# Altium integrated library TI Interface LVDS M-LVDS ECL CML.IntLib: 251 symbols (part 6 of 10)
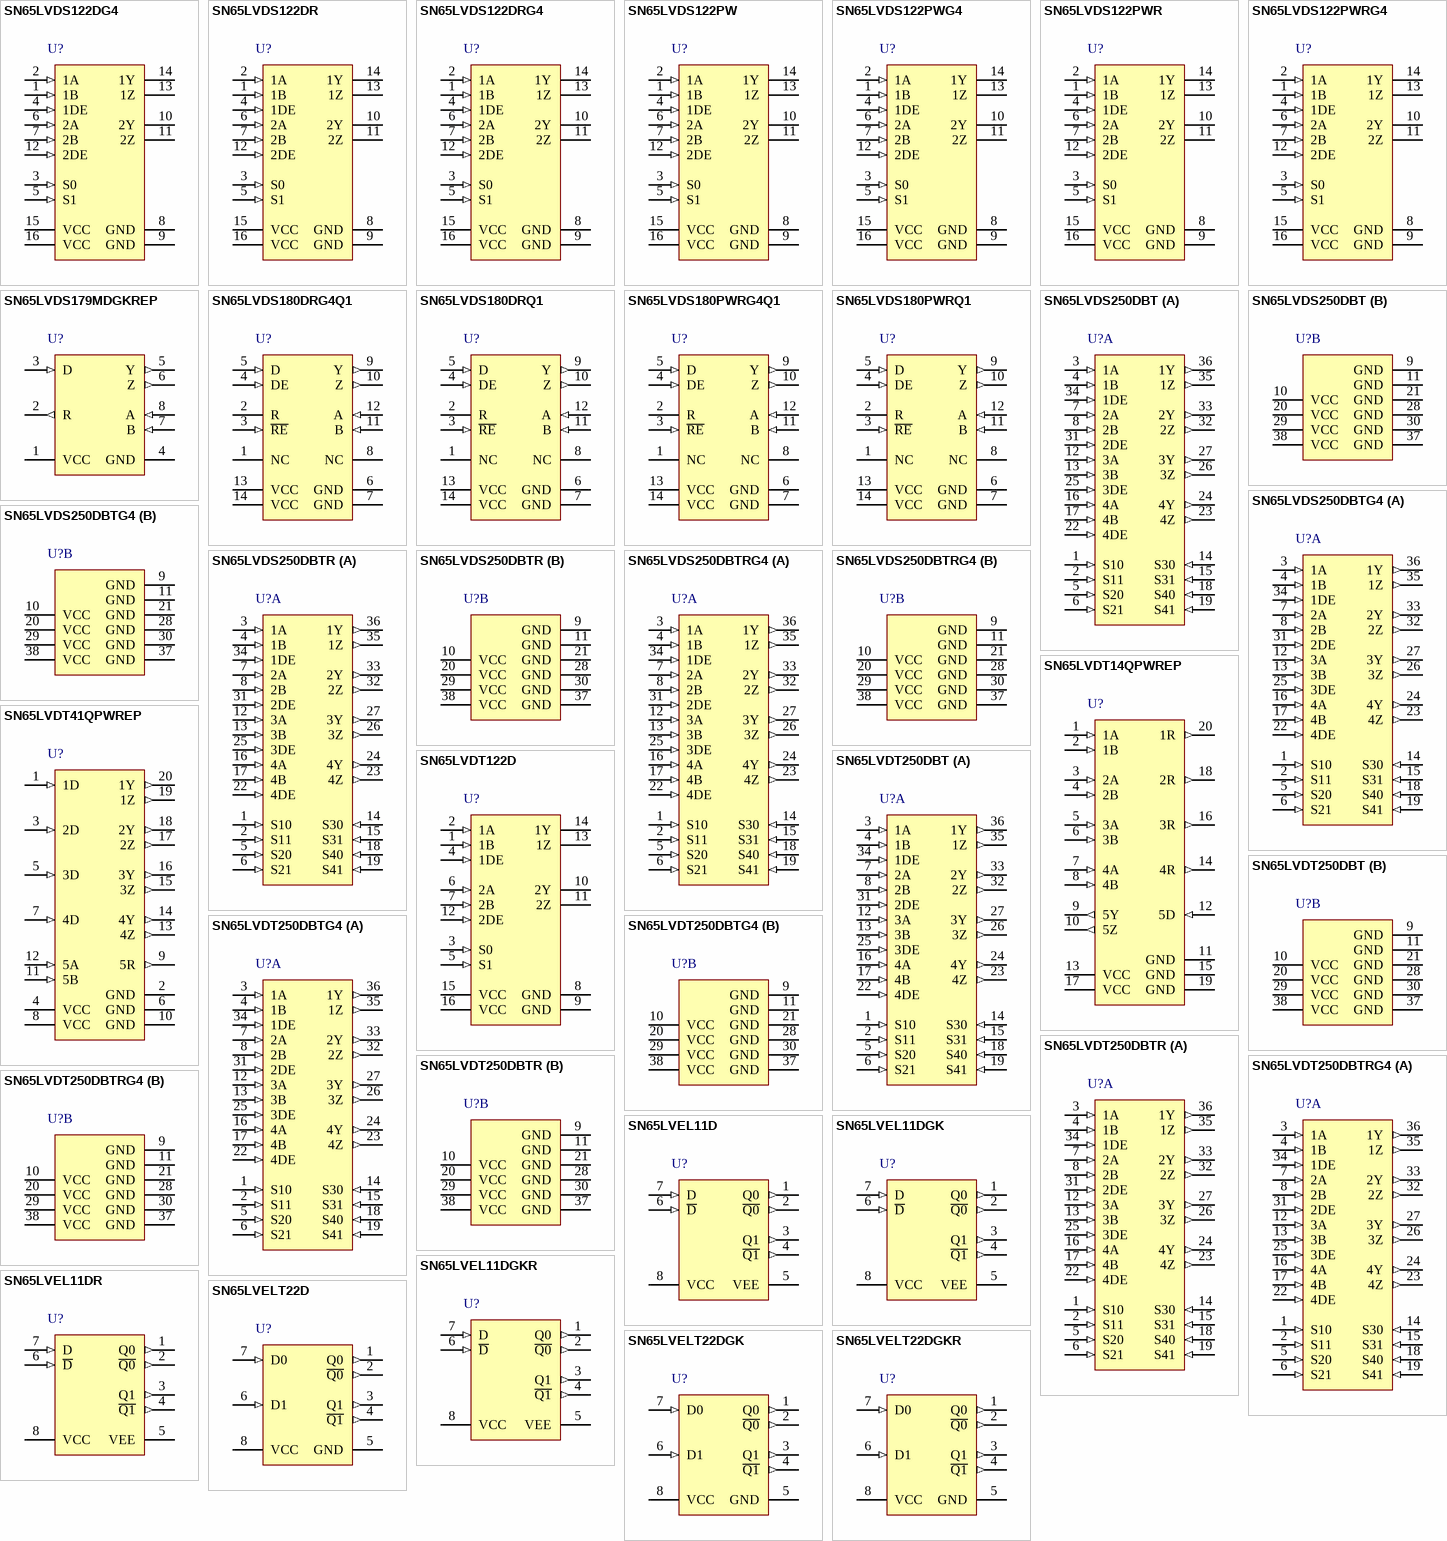
[diagram p14: symbols SN65LVDS122DG4 to SN65LVELT22DGKR]

## SN65LVDT250DBTR
designator U?
2.0 Gbps 4 x 4 Crosspoint Switch with LVDS Output, 4 Tx and 4 Rx, -40 to +85 degC, 38-pin TSSOP (DBT), Green (RoHS & no Sb/Br); Part-to-Part Skew(Max)(ps): 300; Manufacturer: Texas Instruments; PartNumber: SN65LVDT250DBTR; Crosspoint-Switch: TRUE; ESD HBM(kV): 3; ICC(Max)(mA): 145; Input Signal: CML, LVDS, LVPECL; No. of Rx: 4; Peak-to-Peak Jitter(Max)(ps): 110; Signaling Rate(Mbps): 2000; SubFamily: Crosspoint-Switch (>1Gbps); DatasheetVersion: SLLS594B; PackageVersion: revI, Mar-2011; PackageReference: DBT38; PackageDescription: 38-Pin Plastic Small Outline 0.5 mm Pitch; Supplier 1: Digi-Key; Supplier Part Number 1: SN65LVDT250DBTR-ND; Supplier 2: Newark; Supplier Part Number 2: 01J0708; Supplier 3: Mouser; Supplier Part Number 3: 595-SN65LVDT250DBTR; Eco-Plan: Green (RoHS & no Sb/Br); Function: Crosspoint; No. of Tx: 4; Output Signal: LVDS; Mounting Technology: Surface Mount; Code_JEDEC: MO-153; ComponentLink1Description: Datasheet; ComponentLink1URL: http://www.ti.com/general/docs/lit/getliterature.tsp?genericPartNumber=SN65LVDT250&fileType=pdf; ComponentLink2Description: URL Link1; ComponentLink2URL: SamplesURL:http://www.ti.com/product/sn65lvdt250#samples
footprint DBT38_N (TSSOP, 38-Leads, Body 9.7x4.4mm, Pitch 0.5mm, IPC Medium Density)
footprint DBT38_L (TSSOP, 38-Leads, Body 9.7x4.4mm, Pitch 0.5mm, IPC High Density)
footprint DBT38_M (TSSOP, 38-Leads, Body 9.7x4.4mm, Pitch 0.5mm, IPC Low Density)
part A pins: 1 S10 (in), 2 S11 (in), 3 1A (in), 4 1B (in), 5 S20 (in), 6 S21 (in), 7 2A (in), 8 2B (in), 12 3A (in), 13 3B (in), 14 S30 (in), 15 S31 (in), 16 4A (in), 17 4B (in), 18 S40 (in), 19 S41 (in), 22 4DE (in), 23 4Z (out), 24 4Y (out), 25 3DE (in), 26 3Z (out), 27 3Y (out), 31 2DE (in), 32 2Z (out), 33 2Y (out), 34 1DE (in), 35 1Z (out), 36 1Y (out)
part B pins: 9 GND (power), 10 VCC (power), 11 GND (power), 20 VCC (power), 21 GND (power), 28 GND (power), 29 VCC (power), 30 GND (power), 37 GND (power), 38 VCC (power)

## SN65LVDT250DBTRG4
designator U?
2000 Mbps 2.0 Gbps 4 x 4 Crosspoint Switch with CML, LVDS, LVPECL Input and LVDS Output, 4 Tx and 4 Rx, -40 to +85 degC, 38-pin TSSOP (DBT), Green (RoHS & no Sb/Br); Part-to-Part Skew(Max)(ps): 300; Manufacturer: Texas Instruments; PartNumber: SN65LVDT250DBTRG4; Crosspoint-Switch: TRUE; ESD HBM(kV): 3; ICC(Max)(mA): 145; No. of Rx: 4; Peak-to-Peak Jitter(Max)(ps): 110; Signaling Rate(Mbps): 2000; SubFamily: Crosspoint-Switch (>1Gbps); DatasheetVersion: SLLS594B; PackageVersion: revI, Mar-2011; PackageReference: DBT38; PackageDescription: 38-Pin Plastic Small Outline 0.5 mm Pitch; Supplier 1: Digi-Key; Supplier Part Number 1: SN65LVDT250DBTRG4-ND; Supplier 2: Newark; Supplier Part Number 2: 54K0580; Supplier 3: Mouser; Supplier Part Number 3: 595-SN65LVDT250DBTRG; Eco-Plan: Green (RoHS & no Sb/Br); Function: Crosspoint; Input Signal: CML, LVDS, LVPECL; No. of Tx: 4; Output Signal: LVDS; Mounting Technology: Surface Mount; Code_JEDEC: MO-153; ComponentLink1Description: Datasheet; ComponentLink1URL: http://www.ti.com/general/docs/lit/getliterature.tsp?genericPartNumber=SN65LVDT250&fileType=pdf; ComponentLink2Description: URL Link1; ComponentLink2URL: SamplesURL:http://www.ti.com/product/sn65lvdt250#samples
footprint DBT38_N (TSSOP, 38-Leads, Body 9.7x4.4mm, Pitch 0.5mm, IPC Medium Density)
footprint DBT38_L (TSSOP, 38-Leads, Body 9.7x4.4mm, Pitch 0.5mm, IPC High Density)
footprint DBT38_M (TSSOP, 38-Leads, Body 9.7x4.4mm, Pitch 0.5mm, IPC Low Density)
part A pins: 1 S10 (in), 2 S11 (in), 3 1A (in), 4 1B (in), 5 S20 (in), 6 S21 (in), 7 2A (in), 8 2B (in), 12 3A (in), 13 3B (in), 14 S30 (in), 15 S31 (in), 16 4A (in), 17 4B (in), 18 S40 (in), 19 S41 (in), 22 4DE (in), 23 4Z (out), 24 4Y (out), 25 3DE (in), 26 3Z (out), 27 3Y (out), 31 2DE (in), 32 2Z (out), 33 2Y (out), 34 1DE (in), 35 1Z (out), 36 1Y (out)
part B pins: 9 GND (power), 10 VCC (power), 11 GND (power), 20 VCC (power), 21 GND (power), 28 GND (power), 29 VCC (power), 30 GND (power), 37 GND (power), 38 VCC (power)

## SN65LVEL11D
designator U?
1500 Mbps 3.3 V PECL 1:2 Fanout Buffer with PECL, ECL Input and PECL, ELC Output, 2 Tx and 1 Rx, -40 to +85 degC, 8-pin SOIC (D), Green (RoHS & no Sb/Br); Manufacturer: Texas Instruments; PartNumber: SN65LVEL11D; ICC(Max)(mA): 25; No. of Rx: 1; No. of Tx: 2; Signaling Rate(Mbps): 1500; SubFamily: PECL PHY; xECL: TRUE; DatasheetVersion: SLLS927; PackageVersion: revM, Jun-2011; PackageReference: D8; PackageDescription: 8-Pin Plastic Small Outline Integrated Circuit, 4.9 x 3.9 mm, Pitch 1.27 mm Pitch; Supplier 1: Digi-Key; Supplier Part Number 1: 296-24025-5-ND; Supplier 2: Newark; Supplier Part Number 2: 40P3858; Supplier 3: Mouser; Supplier Part Number 3: 595-SN65LVEL11D; Eco-Plan: Green (RoHS & no Sb/Br); Input Signal: PECL, ECL; Output Signal: PECL, ELC; Mounting Technology: Surface Mount; Code_JEDEC: MS-012AA; ComponentLink1Description: Datasheet; ComponentLink1URL: http://www.ti.com/general/docs/lit/getliterature.tsp?genericPartNumber=SN65LVEL11&fileType=pdf; ComponentLink2Description: URL Link1; ComponentLink2URL: SamplesURL:http://www.ti.com/product/sn65lvel11#samples
footprint D8_N (SOIC, 8-Leads, Body 4.9x3.9mm, Pitch 1.27mm, IPC Medium Density)
footprint D8_L (SOIC, 8-Leads, Body 4.9x3.9mm, Pitch 1.27mm, IPC High Density)
footprint D8_M (SOIC, 8-Leads, Body 4.9x3.9mm, Pitch 1.27mm, IPC Low Density)
pins: 1 Q0 (out) "PECL/ECL output.", 2 ~{Q0} (out) "PECL/ECL output.", 3 Q1 (out) "PECL/ECL output.", 4 ~{Q1} (out) "PECL/ECL output.", 5 VEE (power) "Negative supply.", 6 ~{D} (in) "PECL/ECL data input.", 7 D (in) "PECL/ECL data input.", 8 VCC (power) "Positive supply."

## SN65LVEL11DGK
designator U?
1500 Mbps 3.3 V PECL 1:2 Fanout Buffer, 2 Tx and 1 Rx, -40 to +85 degC, 8-pin VSSOP (DGK), Green (RoHS & no Sb/Br); Manufacturer: Texas Instruments; PartNumber: SN65LVEL11DGK; ICC(Max)(mA): 25; Input Signal: PECL, ECL; No. of Rx: 1; No. of Tx: 2; Output Signal: PECL, ELC; Signaling Rate(Mbps): 1500; SubFamily: PECL PHY; xECL: TRUE; DatasheetVersion: SLLS927; PackageVersion: revE, May-2006; PackageReference: DGK8; PackageDescription: 8-Pin Thin Small Outline Package 3 x 3 mm Body ,0.65 mm Pitch; Supplier 1: Digi-Key; Supplier Part Number 1: 296-24113-5-ND; Supplier 2: Mouser; Supplier Part Number 2: 595-SN65LVEL11DGK; Eco-Plan: Green (RoHS & no Sb/Br); Mounting Technology: Surface Mount; Code_JEDEC: MO-187-AA; ComponentLink1Description: Datasheet; ComponentLink1URL: http://www.ti.com/general/docs/lit/getliterature.tsp?genericPartNumber=SN65LVEL11&fileType=pdf; ComponentLink2Description: URL Link1; ComponentLink2URL: SamplesURL:http://www.ti.com/product/sn65lvel11#samples
footprint DGK8_N (TSOP, 8-Leads, Body 3x3mm, Pitch 0.65mm, IPC Medium Density)
footprint DGK8_L (TSOP, 8-Leads, Body 3x3mm, Pitch 0.65mm, IPC High Density)
footprint DGK8_M (TSOP, 8-Leads, Body 3x3mm, Pitch 0.65mm, IPC Low Density)
pins: 1 Q0 (out) "PECL/ECL outputs", 2 ~{Q0} (out) "PECL/ECL outputs", 3 Q1 (out) "PECL/ECL outputs", 4 ~{Q1} (out) "PECL/ECL outputs", 5 VEE (power) "Negative supply", 6 ~{D} (in) "PECL/ECL data inputs", 7 D (in) "PECL/ECL data inputs", 8 VCC (power) "Positive supply"

## SN65LVEL11DGKR
designator U?
1500 Mbps 3.3V PECL 1:2 Fanout Buffer with PECL, ECL Input and PECL, ELC Output, 2 Tx and 1 Rx, -40 to +85 degC, 8-pin VSSOP (DGK), Green (RoHS & no Sb/Br); Manufacturer: Texas Instruments; PartNumber: SN65LVEL11DGKR; ICC(Max)(mA): 25; No. of Rx: 1; No. of Tx: 2; Signaling Rate(Mbps): 1500; SubFamily: PECL PHY; xECL: TRUE; DatasheetVersion: SLLS927; PackageVersion: revE, May-2006; PackageReference: DGK8; PackageDescription: 8-Pin Thin Small Outline Package 3 x 3 mm Body ,0.65 mm Pitch; Supplier 1: Digi-Key; Supplier Part Number 1: SN65LVEL11DGKR-ND; Supplier 2: Newark; Supplier Part Number 2: 52P6745; Supplier 3: Mouser; Supplier Part Number 3: 595-SN65LVEL11DGKR; Eco-Plan: Green (RoHS & no Sb/Br); Input Signal: PECL, ECL; Output Signal: PECL, ELC; Mounting Technology: Surface Mount; Code_JEDEC: MO-187-AA; ComponentLink1Description: Datasheet; ComponentLink1URL: http://www.ti.com/general/docs/lit/getliterature.tsp?genericPartNumber=SN65LVEL11&fileType=pdf; ComponentLink2Description: URL Link1; ComponentLink2URL: SamplesURL:http://www.ti.com/product/sn65lvel11#samples
footprint DGK8_N (TSOP, 8-Leads, Body 3x3mm, Pitch 0.65mm, IPC Medium Density)
footprint DGK8_L (TSOP, 8-Leads, Body 3x3mm, Pitch 0.65mm, IPC High Density)
footprint DGK8_M (TSOP, 8-Leads, Body 3x3mm, Pitch 0.65mm, IPC Low Density)
pins: 1 Q0 (out) "PECL/ECL outputs", 2 ~{Q0} (out) "PECL/ECL outputs", 3 Q1 (out) "PECL/ECL outputs", 4 ~{Q1} (out) "PECL/ECL outputs", 5 VEE (power) "Negative supply", 6 ~{D} (in) "PECL/ECL data inputs", 7 D (in) "PECL/ECL data inputs", 8 VCC (power) "Positive supply"

## SN65LVEL11DR
designator U?
1500 Mbps 3.3 V PECL 1:2 Fanout Buffer, 2 Tx and 1 Rx, -40 to +85 degC, 8-pin SOIC (D), Green (RoHS & no Sb/Br); Manufacturer: Texas Instruments; PartNumber: SN65LVEL11DR; ICC(Max)(mA): 25; Input Signal: PECL, ECL; No. of Rx: 1; No. of Tx: 2; Output Signal: PECL, ELC; Signaling Rate(Mbps): 1500; SubFamily: PECL PHY; xECL: TRUE; DatasheetVersion: SLLS927; PackageVersion: revM, Jun-2011; PackageReference: D8; PackageDescription: 8-Pin Plastic Small Outline Integrated Circuit, 4.9 x 3.9 mm, Pitch 1.27 mm Pitch; Supplier 1: Digi-Key; Supplier Part Number 1: 296-23982-2-ND; Supplier 2: Digi-Key; Supplier Part Number 2: 296-23982-1-ND; Supplier 3: Digi-Key; Supplier Part Number 3: 296-23982-6-ND; Supplier 4: Mouser; Supplier Part Number 4: 595-SN65LVEL11DR; Eco-Plan: Green (RoHS & no Sb/Br); Mounting Technology: Surface Mount; Code_JEDEC: MS-012AA; ComponentLink1Description: Datasheet; ComponentLink1URL: http://www.ti.com/general/docs/lit/getliterature.tsp?genericPartNumber=SN65LVEL11&fileType=pdf; ComponentLink2Description: URL Link1; ComponentLink2URL: SamplesURL:http://www.ti.com/product/sn65lvel11#samples
footprint D8_N (SOIC, 8-Leads, Body 4.9x3.9mm, Pitch 1.27mm, IPC Medium Density)
footprint D8_L (SOIC, 8-Leads, Body 4.9x3.9mm, Pitch 1.27mm, IPC High Density)
footprint D8_M (SOIC, 8-Leads, Body 4.9x3.9mm, Pitch 1.27mm, IPC Low Density)
pins: 1 Q0 (out) "PECL/ECL output.", 2 ~{Q0} (out) "PECL/ECL output.", 3 Q1 (out) "PECL/ECL output.", 4 ~{Q1} (out) "PECL/ECL output.", 5 VEE (power) "Negative supply.", 6 ~{D} (in) "PECL/ECL data input.", 7 D (in) "PECL/ECL data input.", 8 VCC (power) "Positive supply."

## SN65LVELT22D
designator U?
Dual LVTTL to Differential LVPECL Translator with LVTTL Input and LVPECL Output, 2 Tx and 2 Rx, 3.3 V, -40 to +85 degC, 8-pin SOIC (D), Green (RoHS & no Sb/Br); Manufacturer: Texas Instruments; PartNumber: SN65LVELT22D; ICC(Max)(mA): 33; No. of Rx: 2; Signaling Rate(Mbps): 3500; SubFamily: PECL PHY; xECL: TRUE; DatasheetVersion: SLLS928; PackageVersion: revM, Jun-2011; PackageReference: D8; PackageDescription: 8-Pin Plastic Small Outline Integrated Circuit, 4.9 x 3.9 mm, Pitch 1.27 mm Pitch; Supplier 1: Digi-Key; Supplier Part Number 1: 296-24068-5-ND; Supplier 2: Farnell; Supplier Part Number 2: 1693305; Supplier 3: Newark; Supplier Part Number 3: 45P8166; Supplier 4: Mouser; Supplier Part Number 4: 595-SN65LVELT22D; Eco-Plan: Green (RoHS & no Sb/Br); Input Signal: LVTTL; No. of Tx: 2; Output Signal: LVPECL; Mounting Technology: Surface Mount; Code_JEDEC: MS-012AA; ComponentLink1Description: Datasheet; ComponentLink1URL: http://www.ti.com/general/docs/lit/getliterature.tsp?genericPartNumber=SN65LVELT22&fileType=pdf; ComponentLink2Description: URL Link1; ComponentLink2URL: SamplesURL:http://www.ti.com/product/sn65lvelt22#samples
footprint D8_N (SOIC, 8-Leads, Body 4.9x3.9mm, Pitch 1.27mm, IPC Medium Density)
footprint D8_L (SOIC, 8-Leads, Body 4.9x3.9mm, Pitch 1.27mm, IPC High Density)
footprint D8_M (SOIC, 8-Leads, Body 4.9x3.9mm, Pitch 1.27mm, IPC Low Density)
pins: 1 Q0 (out) "PECL/ECL output", 2 ~{Q0} (out) "PECL/ECL output", 3 Q1 (out) "PECL/ECL output", 4 ~{Q1} (out) "PECL/ECL output", 5 GND (power) "Ground", 6 D1 (in) "TTL input", 7 D0 (in) "TTL input", 8 VCC (power) "Positive supply"

## SN65LVELT22DGK
designator U?
3500 Mbps 3.3 V Dual LVTTL to Differential LVPECL Translator, 2 Tx and 2 Rx, -40 to +85 degC, 8-pin VSSOP (DGK), Green (RoHS & no Sb/Br); Manufacturer: Texas Instruments; PartNumber: SN65LVELT22DGK; ICC(Max)(mA): 33; No. of Rx: 2; Signaling Rate(Mbps): 3500; SubFamily: PECL PHY; xECL: TRUE; DatasheetVersion: SLLS928; PackageVersion: revE, May-2006; PackageReference: DGK8; PackageDescription: 8-Pin Thin Small Outline Package 3 x 3 mm Body ,0.65 mm Pitch; Supplier 1: Digi-Key; Supplier Part Number 1: 296-24088-5-ND; Supplier 2: Newark; Supplier Part Number 2: 45P8167; Supplier 3: Mouser; Supplier Part Number 3: 595-SN65LVELT22DGK; Eco-Plan: Green (RoHS & no Sb/Br); Input Signal: LVTTL; No. of Tx: 2; Output Signal: LVPECL; Mounting Technology: Surface Mount; Code_JEDEC: MO-187-AA; ComponentLink1Description: Datasheet; ComponentLink1URL: http://www.ti.com/general/docs/lit/getliterature.tsp?genericPartNumber=SN65LVELT22&fileType=pdf; ComponentLink2Description: URL Link1; ComponentLink2URL: SamplesURL:http://www.ti.com/product/sn65lvelt22#samples
footprint DGK8_N (TSOP, 8-Leads, Body 3x3mm, Pitch 0.65mm, IPC Medium Density)
footprint DGK8_L (TSOP, 8-Leads, Body 3x3mm, Pitch 0.65mm, IPC High Density)
footprint DGK8_M (TSOP, 8-Leads, Body 3x3mm, Pitch 0.65mm, IPC Low Density)
pins: 1 Q0 (out) "PECL/ECL output", 2 ~{Q0} (out) "PECL/ECL output", 3 Q1 (out) "PECL/ECL output", 4 ~{Q1} (out) "PECL/ECL output", 5 GND (power) "Ground", 6 D1 (in) "TTL input", 7 D0 (in) "TTL input", 8 VCC (power) "Positive supply"

## SN65LVELT22DGKR
designator U?
3500 Mbps 3.3 V Dual LVTTL to Differential LVPECL Translator, 2 Tx and 2 Rx, -40 to +85 degC, 8-pin VSSOP (DGK), Green (RoHS & no Sb/Br); Manufacturer: Texas Instruments; PartNumber: SN65LVELT22DGKR; ICC(Max)(mA): 33; No. of Rx: 2; Signaling Rate(Mbps): 3500; SubFamily: PECL PHY; xECL: TRUE; DatasheetVersion: SLLS928; PackageVersion: revE, May-2006; PackageReference: DGK8; PackageDescription: 8-Pin Thin Small Outline Package 3 x 3 mm Body ,0.65 mm Pitch; Supplier 1: Digi-Key; Supplier Part Number 1: SN65LVELT22DGKR-ND; Supplier 2: Mouser; Supplier Part Number 2: 595-SN65LVELT22DGKR; Eco-Plan: Green (RoHS & no Sb/Br); Input Signal: LVTTL; No. of Tx: 2; Output Signal: LVPECL; Mounting Technology: Surface Mount; Code_JEDEC: MO-187-AA; ComponentLink1Description: Datasheet; ComponentLink1URL: http://www.ti.com/general/docs/lit/getliterature.tsp?genericPartNumber=SN65LVELT22&fileType=pdf; ComponentLink2Description: URL Link1; ComponentLink2URL: SamplesURL:http://www.ti.com/product/sn65lvelt22#samples
footprint DGK8_N (TSOP, 8-Leads, Body 3x3mm, Pitch 0.65mm, IPC Medium Density)
footprint DGK8_L (TSOP, 8-Leads, Body 3x3mm, Pitch 0.65mm, IPC High Density)
footprint DGK8_M (TSOP, 8-Leads, Body 3x3mm, Pitch 0.65mm, IPC Low Density)
pins: 1 Q0 (out) "PECL/ECL output", 2 ~{Q0} (out) "PECL/ECL output", 3 Q1 (out) "PECL/ECL output", 4 ~{Q1} (out) "PECL/ECL output", 5 GND (power) "Ground", 6 D1 (in) "TTL input", 7 D0 (in) "TTL input", 8 VCC (power) "Positive supply"

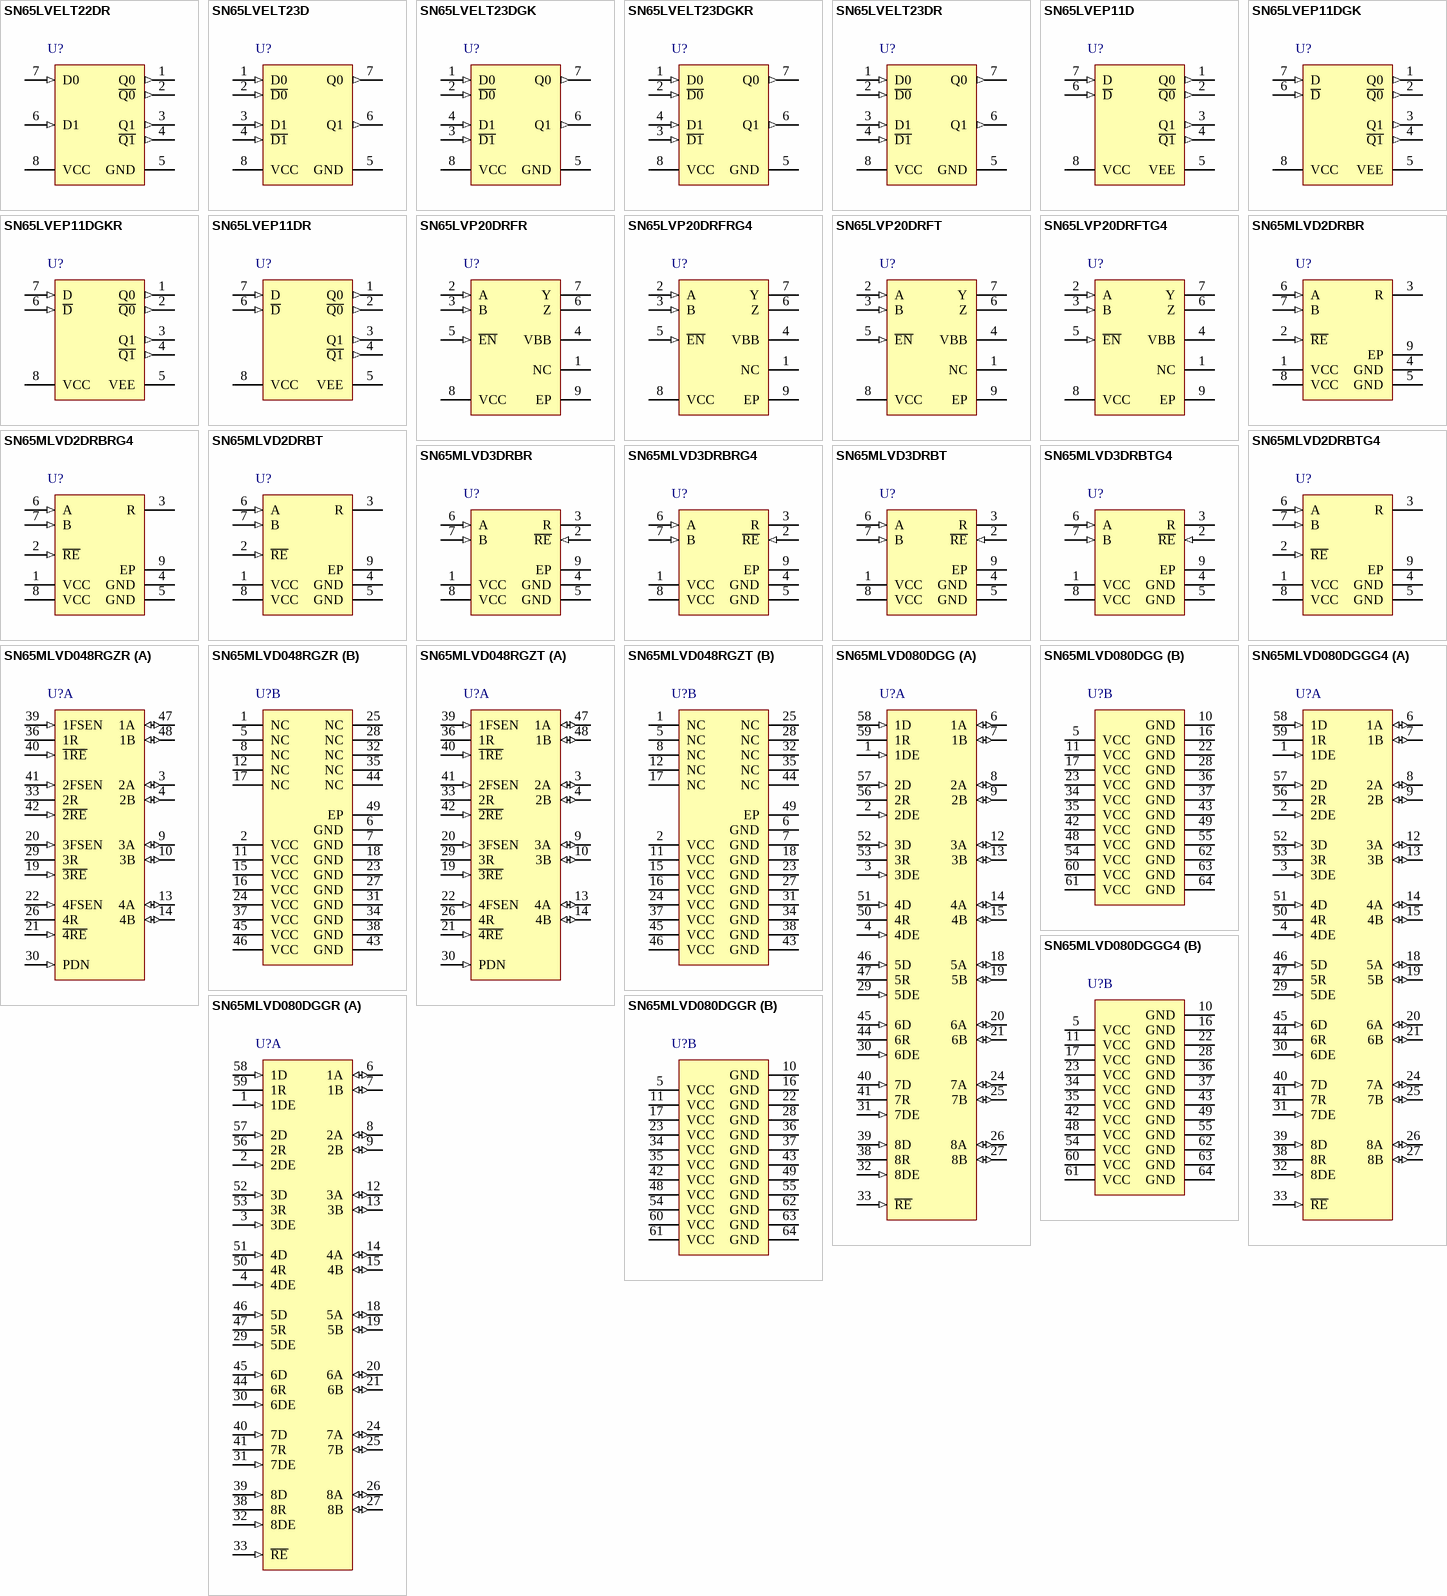
[diagram p5: symbols SN65LVELT22DR to SN65MLVD080DGGR]

## SN65LVELT22DR
designator U?
3500 Mbps 3.3 V Dual LVTTL to Differential LVPECL Translator, 2 Tx and 2 Rx, -40 to +85 degC, 8-pin SOIC (D), Green (RoHS & no Sb/Br); Manufacturer: Texas Instruments; PartNumber: SN65LVELT22DR; ICC(Max)(mA): 33; No. of Rx: 2; Signaling Rate(Mbps): 3500; SubFamily: PECL PHY; xECL: TRUE; DatasheetVersion: SLLS928; PackageVersion: revM, Jun-2011; PackageReference: D8; PackageDescription: 8-Pin Plastic Small Outline Integrated Circuit, 4.9 x 3.9 mm, Pitch 1.27 mm Pitch; Supplier 1: Digi-Key; Supplier Part Number 1: SN65LVELT22DR-ND; Supplier 2: Mouser; Supplier Part Number 2: 595-SN65LVELT22DR; Eco-Plan: Green (RoHS & no Sb/Br); Input Signal: LVTTL; No. of Tx: 2; Output Signal: LVPECL; Mounting Technology: Surface Mount; Code_JEDEC: MS-012AA; ComponentLink1Description: Datasheet; ComponentLink1URL: http://www.ti.com/general/docs/lit/getliterature.tsp?genericPartNumber=SN65LVELT22&fileType=pdf; ComponentLink2Description: URL Link1; ComponentLink2URL: SamplesURL:http://www.ti.com/product/sn65lvelt22#samples
footprint D8_N (SOIC, 8-Leads, Body 4.9x3.9mm, Pitch 1.27mm, IPC Medium Density)
footprint D8_L (SOIC, 8-Leads, Body 4.9x3.9mm, Pitch 1.27mm, IPC High Density)
footprint D8_M (SOIC, 8-Leads, Body 4.9x3.9mm, Pitch 1.27mm, IPC Low Density)
pins: 1 Q0 (out) "PECL/ECL output", 2 ~{Q0} (out) "PECL/ECL output", 3 Q1 (out) "PECL/ECL output", 4 ~{Q1} (out) "PECL/ECL output", 5 GND (power) "Ground", 6 D1 (in) "TTL input", 7 D0 (in) "TTL input", 8 VCC (power) "Positive supply"

## SN65LVELT23D
designator U?
600 Mbps 3.3 V Dual Differential LVPECL Buffer to LVTTL Translator with LVTTL Output, 2 Tx and 2 Rx, -40 to +85 degC, 8-pin SOIC (D), Green (RoHS & no Sb/Br); Part-to-Part Skew(Max)(ps): 200; Manufacturer: Texas Instruments; PartNumber: SN65LVELT23D; ICC(Max)(mA): 27; Input Signal: LVPECL, LVDS; No. of Rx: 2; Signaling Rate(Mbps): 600; SubFamily: PECL PHY; xECL: TRUE; DatasheetVersion: SLLS929A; PackageVersion: revM, Jun-2011; PackageReference: D8; PackageDescription: 8-Pin Plastic Small Outline Integrated Circuit, 4.9 x 3.9 mm, Pitch 1.27 mm Pitch; Supplier 1: Digi-Key; Supplier Part Number 1: 296-24824-5-ND; Supplier 2: Farnell; Supplier Part Number 2: 1779983; Supplier 3: Newark; Supplier Part Number 3: 14R9902; Supplier 4: Mouser; Supplier Part Number 4: 595-SN65LVELT23D; Eco-Plan: Green (RoHS & no Sb/Br); No. of Tx: 2; Output Signal: LVTTL; Mounting Technology: Surface Mount; Code_JEDEC: MS-012AA; ComponentLink1Description: Datasheet; ComponentLink1URL: http://www.ti.com/general/docs/lit/getliterature.tsp?genericPartNumber=SN65LVELT23&fileType=pdf; ComponentLink2Description: URL Link1; ComponentLink2URL: SamplesURL:http://www.ti.com/product/sn65lvelt23#samples
footprint D8_N (SOIC, 8-Leads, Body 4.9x3.9mm, Pitch 1.27mm, IPC Medium Density)
footprint D8_L (SOIC, 8-Leads, Body 4.9x3.9mm, Pitch 1.27mm, IPC High Density)
footprint D8_M (SOIC, 8-Leads, Body 4.9x3.9mm, Pitch 1.27mm, IPC Low Density)
pins: 1 D0 (in) "PECL input", 2 ~{D0} (in) "PECL input", 3 D1 (in) "PECL input", 4 ~{D1} (in) "PECL input", 5 GND (power) "Ground", 6 Q1 (out) "TTL output", 7 Q0 (out) "TTL output", 8 VCC (power) "Positive supply"

## SN65LVELT23DGK
designator U?
600 Mbps 3.3 V Dual Differential LVPECL Buffer to LVTTL Translator, 2 Tx and 2 Rx, -40 to +85 degC, 8-pin VSSOP (DGK), Green (RoHS & no Sb/Br); Part-to-Part Skew(Max)(ps): 200; Manufacturer: Texas Instruments; PartNumber: SN65LVELT23DGK; ICC(Max)(mA): 27; Input Signal: LVPECL, LVDS; No. of Rx: 2; Signaling Rate(Mbps): 600; SubFamily: PECL PHY; xECL: TRUE; DatasheetVersion: SLLS929A; PackageVersion: revE, May-2006; PackageReference: DGK8; PackageDescription: 8-Pin Thin Small Outline Package 3 x 3 mm Body ,0.65 mm Pitch; Supplier 1: Digi-Key; Supplier Part Number 1: 296-24938-5-ND; Supplier 2: Newark; Supplier Part Number 2: 50R7864; Supplier 3: Mouser; Supplier Part Number 3: 595-SN65LVELT23DGK; Eco-Plan: Green (RoHS & no Sb/Br); No. of Tx: 2; Output Signal: LVTTL; Mounting Technology: Surface Mount; Code_JEDEC: MO-187-AA; ComponentLink1Description: Datasheet; ComponentLink1URL: http://www.ti.com/general/docs/lit/getliterature.tsp?genericPartNumber=SN65LVELT23&fileType=pdf; ComponentLink2Description: URL Link1; ComponentLink2URL: SamplesURL:http://www.ti.com/product/sn65lvelt23#samples
footprint DGK8_N (TSOP, 8-Leads, Body 3x3mm, Pitch 0.65mm, IPC Medium Density)
footprint DGK8_L (TSOP, 8-Leads, Body 3x3mm, Pitch 0.65mm, IPC High Density)
footprint DGK8_M (TSOP, 8-Leads, Body 3x3mm, Pitch 0.65mm, IPC Low Density)
pins: 1 D0 (in) "PECL input", 2 ~{D0} (in) "PECL input", 3 ~{D1} (in) "PECL input", 4 D1 (in) "PECL input", 5 GND (power) "Ground", 6 Q1 (out) "TTL output", 7 Q0 (out) "TTL output", 8 VCC (power) "Positive supply"

## SN65LVELT23DGKR
designator U?
600 Mbps 3.3 V Dual Differential LVPECL Buffer to LVTTL Translator, 2 Tx and 2 Rx, -40 to +85 degC, 8-pin VSSOP (DGK), Green (RoHS & no Sb/Br); Part-to-Part Skew(Max)(ps): 200; Manufacturer: Texas Instruments; PartNumber: SN65LVELT23DGKR; ICC(Max)(mA): 27; Input Signal: LVPECL, LVDS; No. of Rx: 2; Signaling Rate(Mbps): 600; SubFamily: PECL PHY; xECL: TRUE; DatasheetVersion: SLLS929A; PackageVersion: revE, May-2006; PackageReference: DGK8; PackageDescription: 8-Pin Thin Small Outline Package 3 x 3 mm Body ,0.65 mm Pitch; Supplier 1: Digi-Key; Supplier Part Number 1: SN65LVELT23DGKR-ND; Supplier 2: Mouser; Supplier Part Number 2: 595-SN65LVELT23DGKR; Eco-Plan: Green (RoHS & no Sb/Br); No. of Tx: 2; Output Signal: LVTTL; Mounting Technology: Surface Mount; Code_JEDEC: MO-187-AA; ComponentLink1Description: Datasheet; ComponentLink1URL: http://www.ti.com/general/docs/lit/getliterature.tsp?genericPartNumber=SN65LVELT23&fileType=pdf; ComponentLink2Description: URL Link1; ComponentLink2URL: SamplesURL:http://www.ti.com/product/sn65lvelt23#samples
footprint DGK8_N (TSOP, 8-Leads, Body 3x3mm, Pitch 0.65mm, IPC Medium Density)
footprint DGK8_L (TSOP, 8-Leads, Body 3x3mm, Pitch 0.65mm, IPC High Density)
footprint DGK8_M (TSOP, 8-Leads, Body 3x3mm, Pitch 0.65mm, IPC Low Density)
pins: 1 D0 (in) "PECL input", 2 ~{D0} (in) "PECL input", 3 ~{D1} (in) "PECL input", 4 D1 (in) "PECL input", 5 GND (power) "Ground", 6 Q1 (out) "TTL output", 7 Q0 (out) "TTL output", 8 VCC (power) "Positive supply"

## SN65LVELT23DR
designator U?
600 Mbps 3.3 V Dual Differential LVPECL Buffer to LVTTL Translator with LVDS input, 2 Tx and 2 Rx, -40 to +85 degC, 8-pin SOIC (D), Green (RoHS & no Sb/Br); Part-to-Part Skew(Max)(ps): 200; Manufacturer: Texas Instruments; PartNumber: SN65LVELT23DR; ICC(Max)(mA): 27; Input Signal: LVPECL, LVDS; No. of Rx: 2; Signaling Rate(Mbps): 600; SubFamily: PECL PHY; xECL: TRUE; DatasheetVersion: SLLS929A; PackageVersion: revM, Jun-2011; PackageReference: D8; PackageDescription: 8-Pin Plastic Small Outline Integrated Circuit, 4.9 x 3.9 mm, Pitch 1.27 mm Pitch; Supplier 1: Digi-Key; Supplier Part Number 1: SN65LVELT23DR-ND; Supplier 2: Newark; Supplier Part Number 2: 24R9951; Supplier 3: Mouser; Supplier Part Number 3: 595-SN65LVELT23DR; Eco-Plan: Green (RoHS & no Sb/Br); No. of Tx: 2; Output Signal: LVTTL; Mounting Technology: Surface Mount; Code_JEDEC: MS-012AA; ComponentLink1Description: Datasheet; ComponentLink1URL: http://www.ti.com/general/docs/lit/getliterature.tsp?genericPartNumber=SN65LVELT23&fileType=pdf; ComponentLink2Description: URL Link1; ComponentLink2URL: SamplesURL:http://www.ti.com/product/sn65lvelt23#samples
footprint D8_N (SOIC, 8-Leads, Body 4.9x3.9mm, Pitch 1.27mm, IPC Medium Density)
footprint D8_L (SOIC, 8-Leads, Body 4.9x3.9mm, Pitch 1.27mm, IPC High Density)
footprint D8_M (SOIC, 8-Leads, Body 4.9x3.9mm, Pitch 1.27mm, IPC Low Density)
pins: 1 D0 (in) "PECL input", 2 ~{D0} (in) "PECL input", 3 D1 (in) "PECL input", 4 ~{D1} (in) "PECL input", 5 GND (power) "Ground", 6 Q1 (out) "TTL output", 7 Q0 (out) "TTL output", 8 VCC (power) "Positive supply"

## SN65LVEP11D
designator U?
3000 Mbps PECL / ECL 1:2 Fanout Buffer, 2 Tx and 1 Rx, -40 to +85 degC, 8-pin SOIC (D), Green (RoHS & no Sb/Br); Manufacturer: Texas Instruments; PartNumber: SN65LVEP11D; ICC(Max)(mA): 45; Input Signal: PECL, ECL; No. of Rx: 1; No. of Tx: 2; Signaling Rate(Mbps): 3000; SubFamily: PECL PHY; xECL: TRUE; DatasheetVersion: SLLS930A; PackageVersion: revM, Jun-2011; PackageReference: D8; PackageDescription: 8-Pin Plastic Small Outline Integrated Circuit, 4.9 x 3.9 mm, Pitch 1.27 mm Pitch; Supplier 1: Digi-Key; Supplier Part Number 1: 296-24026-5-ND; Supplier 2: Farnell; Supplier Part Number 2: 1693231; Supplier 3: Newark; Supplier Part Number 3: 40P3859; Supplier 4: Mouser; Supplier Part Number 4: 595-SN65LVEP11D; Eco-Plan: Green (RoHS & no Sb/Br); Output Signal: PECL/ECL; Mounting Technology: Surface Mount; Code_JEDEC: MS-012AA; ComponentLink1Description: Datasheet; ComponentLink1URL: http://www.ti.com/general/docs/lit/getliterature.tsp?genericPartNumber=SN65LVEP11&fileType=pdf; ComponentLink2Description: URL Link1; ComponentLink2URL: SamplesURL:http://www.ti.com/product/sn65lvep11#samples
footprint D8_N (SOIC, 8-Leads, Body 4.9x3.9mm, Pitch 1.27mm, IPC Medium Density)
footprint D8_L (SOIC, 8-Leads, Body 4.9x3.9mm, Pitch 1.27mm, IPC High Density)
footprint D8_M (SOIC, 8-Leads, Body 4.9x3.9mm, Pitch 1.27mm, IPC Low Density)
pins: 1 Q0 (out) "PECL/ECL output", 2 ~{Q0} (out) "PECL/ECL output", 3 Q1 (out) "PECL/ECL output", 4 ~{Q1} (out) "PECL/ECL output", 5 VEE (power) "Negative supply", 6 ~{D} (in) "PECL/ECL data input", 7 D (in) "PECL/ECL data input", 8 VCC (power) "Positive supply"

## SN65LVEP11DGK
designator U?
3000 Mbps PECL / ECL 1:2 Fanout Buffer, 2 Tx and 1 Rx, -40 to +85 degC, 8-pin VSSOP (DGK), Green (RoHS & no Sb/Br); Manufacturer: Texas Instruments; PartNumber: SN65LVEP11DGK; ICC(Max)(mA): 45; Input Signal: PECL, ECL; No. of Rx: 1; No. of Tx: 2; Signaling Rate(Mbps): 3000; SubFamily: PECL PHY; xECL: TRUE; DatasheetVersion: SLLS930A; PackageVersion: revE, May-2006; PackageReference: DGK8; PackageDescription: 8-Pin Thin Small Outline Package 3 x 3 mm Body ,0.65 mm Pitch; Supplier 1: Digi-Key; Supplier Part Number 1: 296-24089-5-ND; Supplier 2: Newark; Supplier Part Number 2: 45P8171; Supplier 3: Mouser; Supplier Part Number 3: 595-SN65LVEP11DGK; Eco-Plan: Green (RoHS & no Sb/Br); Output Signal: PECL/ECL; Mounting Technology: Surface Mount; Code_JEDEC: MO-187-AA; ComponentLink1Description: Datasheet; ComponentLink1URL: http://www.ti.com/general/docs/lit/getliterature.tsp?genericPartNumber=SN65LVEP11&fileType=pdf; ComponentLink2Description: URL Link1; ComponentLink2URL: SamplesURL:http://www.ti.com/product/sn65lvep11#samples
footprint DGK8_N (TSOP, 8-Leads, Body 3x3mm, Pitch 0.65mm, IPC Medium Density)
footprint DGK8_L (TSOP, 8-Leads, Body 3x3mm, Pitch 0.65mm, IPC High Density)
footprint DGK8_M (TSOP, 8-Leads, Body 3x3mm, Pitch 0.65mm, IPC Low Density)
pins: 1 Q0 (out) "PECL/ECL output", 2 ~{Q0} (out) "PECL/ECL output", 3 Q1 (out) "PECL/ECL output", 4 ~{Q1} (out) "PECL/ECL output", 5 VEE (power) "Negative supply", 6 ~{D} (in) "PECL/ECL data input", 7 D (in) "PECL/ECL data input", 8 VCC (power) "Positive supply"

## SN65LVEP11DGKR
designator U?
3000 Mbps PECL, ECL 1:2 Fanout Buffer with PECL, ECL Input and PECL, ECL Output, 2 Tx and 1 Rx, -40 to +85 degC, 8-pin VSSOP (DGK), Green (RoHS & no Sb/Br); Manufacturer: Texas Instruments; PartNumber: SN65LVEP11DGKR; ICC(Max)(mA): 45; No. of Rx: 1; No. of Tx: 2; Output Signal: PECL/ECL; Signaling Rate(Mbps): 3000; SubFamily: PECL PHY; xECL: TRUE; DatasheetVersion: SLLS930A; PackageVersion: revE, May-2006; PackageReference: DGK8; PackageDescription: 8-Pin Thin Small Outline Package 3 x 3 mm Body ,0.65 mm Pitch; Supplier 1: Digi-Key; Supplier Part Number 1: SN65LVEP11DGKR-ND; Supplier 2: Newark; Supplier Part Number 2: 45P8172; Supplier 3: Mouser; Supplier Part Number 3: 595-SN65LVEP11DGKR; Eco-Plan: Green (RoHS & no Sb/Br); Input Signal: PECL, ECL; Mounting Technology: Surface Mount; Code_JEDEC: MO-187-AA; ComponentLink1Description: Datasheet; ComponentLink1URL: http://www.ti.com/general/docs/lit/getliterature.tsp?genericPartNumber=SN65LVEP11&fileType=pdf; ComponentLink2Description: URL Link1; ComponentLink2URL: SamplesURL:http://www.ti.com/product/sn65lvep11#samples
footprint DGK8_N (TSOP, 8-Leads, Body 3x3mm, Pitch 0.65mm, IPC Medium Density)
footprint DGK8_L (TSOP, 8-Leads, Body 3x3mm, Pitch 0.65mm, IPC High Density)
footprint DGK8_M (TSOP, 8-Leads, Body 3x3mm, Pitch 0.65mm, IPC Low Density)
pins: 1 Q0 (out) "PECL/ECL output", 2 ~{Q0} (out) "PECL/ECL output", 3 Q1 (out) "PECL/ECL output", 4 ~{Q1} (out) "PECL/ECL output", 5 VEE (power) "Negative supply", 6 ~{D} (in) "PECL/ECL data input", 7 D (in) "PECL/ECL data input", 8 VCC (power) "Positive supply"

## SN65LVEP11DR
designator U?
3000 Mbps PECL / ECL 1:2 Fanout Buffer, 2 Tx and 1 Rx, -40 to +85 degC, 8-pin SOIC (D), Green (RoHS & no Sb/Br); Manufacturer: Texas Instruments; PartNumber: SN65LVEP11DR; ICC(Max)(mA): 45; Input Signal: PECL, ECL; No. of Rx: 1; No. of Tx: 2; Signaling Rate(Mbps): 3000; SubFamily: PECL PHY; xECL: TRUE; DatasheetVersion: SLLS930A; PackageVersion: revM, Jun-2011; PackageReference: D8; PackageDescription: 8-Pin Plastic Small Outline Integrated Circuit, 4.9 x 3.9 mm, Pitch 1.27 mm Pitch; Supplier 1: Digi-Key; Supplier Part Number 1: 296-23983-2-ND; Supplier 2: Digi-Key; Supplier Part Number 2: 296-23983-1-ND; Supplier 3: Digi-Key; Supplier Part Number 3: 296-23983-6-ND; Supplier 4: Newark; Supplier Part Number 4: 45P8173; Supplier 5: Mouser; Supplier Part Number 5: 595-SN65LVEP11DR; Eco-Plan: Green (RoHS & no Sb/Br); Output Signal: PECL/ECL; Mounting Technology: Surface Mount; Code_JEDEC: MS-012AA; ComponentLink1Description: Datasheet; ComponentLink1URL: http://www.ti.com/general/docs/lit/getliterature.tsp?genericPartNumber=SN65LVEP11&fileType=pdf; ComponentLink2Description: URL Link1; ComponentLink2URL: SamplesURL:http://www.ti.com/product/sn65lvep11#samples
footprint D8_N (SOIC, 8-Leads, Body 4.9x3.9mm, Pitch 1.27mm, IPC Medium Density)
footprint D8_L (SOIC, 8-Leads, Body 4.9x3.9mm, Pitch 1.27mm, IPC High Density)
footprint D8_M (SOIC, 8-Leads, Body 4.9x3.9mm, Pitch 1.27mm, IPC Low Density)
pins: 1 Q0 (out) "PECL/ECL output", 2 ~{Q0} (out) "PECL/ECL output", 3 Q1 (out) "PECL/ECL output", 4 ~{Q1} (out) "PECL/ECL output", 5 VEE (power) "Negative supply", 6 ~{D} (in) "PECL/ECL data input", 7 D (in) "PECL/ECL data input", 8 VCC (power) "Positive supply"

## SN65LVP20DRFR
designator U?
4000 Mbps 4-Gbps PECL to LVPECL Repeater with Differential Input and LVPECL Output, 1 Tx and 1 Rx, -40 to +85 degC, 8-pin WSON (DRF), Green (RoHS & no Sb/Br); Part-to-Part Skew(Max)(ps): 80; Manufacturer: Texas Instruments; PartNumber: SN65LVP20DRFR; ESD HBM(kV): 3; ICC(Max)(mA): 45; No. of Rx: 1; Peak-to-Peak Jitter(Max)(ps): 35; Signaling Rate(Mbps): 4000; SubFamily: Repeater/Translator (>1Gbps); xECL: TRUE; DatasheetVersion: SLLS620A; PackageVersion: revE, Oct-2010; PackageReference: DRF8-1800X500TP; PackageDescription: 8-Pin Plastic Small Outline No-Lead, 2 x 2 x 0.8 mm Body, 0.5 mm Pitch, Exposed Pad; Supplier 1: Digi-Key; Supplier Part Number 1: SN65LVP20DRFR-ND; Supplier 2: Newark; Supplier Part Number 2: 21J8905; Supplier 3: Mouser; Supplier Part Number 3: 595-SN65LVP20DRFR; Eco-Plan: Green (RoHS & no Sb/Br); Input Signal: Differential; No. of Tx: 1; Output Signal: LVPECL; Mounting Technology: Surface Mount; Code_JEDEC: MO-229; ComponentLink1Description: Datasheet; ComponentLink1URL: http://www.ti.com/general/docs/lit/getliterature.tsp?genericPartNumber=SN65LVP20&fileType=pdf; ComponentLink2Description: URL Link1; ComponentLink2URL: SamplesURL:http://www.ti.com/product/sn65lvp20#samples
footprint DRF8-1800X500TP (SON, 8-Leads, Body 2x2mm, Pitch 0.5mm, Thermal Pad 1.8x0.3/0.5mm, TI Recommended)
pins: 1 NC, 2 A (in), 3 B (in), 4 VBB, 5 ~{EN} (in), 6 Z (hiz), 7 Y (hiz), 8 VCC (power), 9 EP (power)

## SN65LVP20DRFRG4
designator U?
4000 Mbps PECL to LVPECL Repeater, 1 Tx and 1 Rx, -40 to +85 degC, 9-pin WSON (DRF), Green (RoHS & no Sb/Br); Part-to-Part Skew(Max)(ps): 80; Manufacturer: Texas Instruments; PartNumber: SN65LVP20DRFRG4; ESD HBM(kV): 3; ICC(Max)(mA): 45; Input Signal: Differential; No. of Rx: 1; Peak-to-Peak Jitter(Max)(ps): 35; Signaling Rate(Mbps): 4000; SubFamily: Repeater/Translator (>1Gbps); xECL: TRUE; DatasheetVersion: SLLS620A; PackageVersion: revE, Oct-2010; PackageReference: DRF8-1800X500TP; PackageDescription: 8-Pin Plastic Small Outline No-Lead, 2 x 2 x 0.8 mm Body, 0.5 mm Pitch, Exposed Pad; Supplier 1: Digi-Key; Supplier Part Number 1: SN65LVP20DRFRG4-ND; Supplier 2: Newark; Supplier Part Number 2: 63K6201; Supplier 3: Mouser; Supplier Part Number 3: 595-SN65LVP20DRFRG4; Eco-Plan: Green (RoHS & no Sb/Br); No. of Tx: 1; Output Signal: LVPECL; Mounting Technology: Surface Mount; Code_JEDEC: MO-229; ComponentLink1Description: Datasheet; ComponentLink1URL: http://www.ti.com/general/docs/lit/getliterature.tsp?genericPartNumber=SN65LVP20&fileType=pdf; ComponentLink2Description: URL Link1; ComponentLink2URL: SamplesURL:http://www.ti.com/product/sn65lvp20#samples
footprint DRF8-1800X500TP (SON, 8-Leads, Body 2x2mm, Pitch 0.5mm, Thermal Pad 1.8x0.3/0.5mm, TI Recommended)
pins: 1 NC, 2 A (in), 3 B (in), 4 VBB, 5 ~{EN} (in), 6 Z (hiz), 7 Y (hiz), 8 VCC (power), 9 EP (power)

## SN65LVP20DRFT
designator U?
4000 Mbps 4-Gbps PECL to LVPECL Repeater with Differential Input and LVPECL Output, 1 Tx and 1 Rx, -40 to +85 degC, 8-pin WSON (DRF), Green (RoHS & no Sb/Br); Part-to-Part Skew(Max)(ps): 80; Manufacturer: Texas Instruments; PartNumber: SN65LVP20DRFT; ESD HBM(kV): 3; ICC(Max)(mA): 45; No. of Rx: 1; Peak-to-Peak Jitter(Max)(ps): 35; Signaling Rate(Mbps): 4000; SubFamily: Repeater/Translator (>1Gbps); xECL: TRUE; DatasheetVersion: SLLS620A; PackageVersion: revE, Oct-2010; PackageReference: DRF8-1800X500TP; PackageDescription: 8-Pin Plastic Small Outline No-Lead, 2 x 2 x 0.8 mm Body, 0.5 mm Pitch, Exposed Pad; Supplier 1: Digi-Key; Supplier Part Number 1: 296-17177-2-ND; Supplier 2: Digi-Key; Supplier Part Number 2: 296-17177-1-ND; Supplier 3: Digi-Key; Supplier Part Number 3: 296-17177-6-ND; Supplier 4: Newark; Supplier Part Number 4: 21J8906; Supplier 5: Mouser; Supplier Part Number 5: 595-SN65LVP20DRFT; Eco-Plan: Green (RoHS & no Sb/Br); Input Signal: Differential; No. of Tx: 1; Output Signal: LVPECL; Mounting Technology: Surface Mount; Code_JEDEC: MO-229; ComponentLink1Description: Datasheet; ComponentLink1URL: http://www.ti.com/general/docs/lit/getliterature.tsp?genericPartNumber=SN65LVP20&fileType=pdf; ComponentLink2Description: URL Link1; ComponentLink2URL: SamplesURL:http://www.ti.com/product/sn65lvp20#samples
footprint DRF8-1800X500TP (SON, 8-Leads, Body 2x2mm, Pitch 0.5mm, Thermal Pad 1.8x0.3/0.5mm, TI Recommended)
pins: 1 NC, 2 A (in), 3 B (in), 4 VBB, 5 ~{EN} (in), 6 Z (hiz), 7 Y (hiz), 8 VCC (power), 9 EP (power)

## SN65LVP20DRFTG4
designator U?
4000 Mbps 4-Gbps PECL to LVPECL Repeater with Differential Input and LVPECL Output, 1 Tx and 1 Rx, -40 to +85 degC, 8-pin WSON (DRF), Green (RoHS & no Sb/Br); Part-to-Part Skew(Max)(ps): 80; Manufacturer: Texas Instruments; PartNumber: SN65LVP20DRFTG4; ESD HBM(kV): 3; ICC(Max)(mA): 45; No. of Rx: 1; Peak-to-Peak Jitter(Max)(ps): 35; Signaling Rate(Mbps): 4000; SubFamily: Repeater/Translator (>1Gbps); xECL: TRUE; DatasheetVersion: SLLS620A; PackageVersion: revE, Oct-2010; PackageReference: DRF8-1800X500TP; PackageDescription: 8-Pin Plastic Small Outline No-Lead, 2 x 2 x 0.8 mm Body, 0.5 mm Pitch, Exposed Pad; Supplier 1: Digi-Key; Supplier Part Number 1: SN65LVP20DRFTG4-ND; Supplier 2: Newark; Supplier Part Number 2: 80K2903; Supplier 3: Mouser; Supplier Part Number 3: 595-SN65LVP20DRFTG4; Eco-Plan: Green (RoHS & no Sb/Br); Input Signal: Differential; No. of Tx: 1; Output Signal: LVPECL; Mounting Technology: Surface Mount; Code_JEDEC: MO-229; ComponentLink1Description: Datasheet; ComponentLink1URL: http://www.ti.com/general/docs/lit/getliterature.tsp?genericPartNumber=SN65LVP20&fileType=pdf; ComponentLink2Description: URL Link1; ComponentLink2URL: SamplesURL:http://www.ti.com/product/sn65lvp20#samples
footprint DRF8-1800X500TP (SON, 8-Leads, Body 2x2mm, Pitch 0.5mm, Thermal Pad 1.8x0.3/0.5mm, TI Recommended)
pins: 1 NC, 2 A (in), 3 B (in), 4 VBB, 5 ~{EN} (in), 6 Z (hiz), 7 Y (hiz), 8 VCC (power), 9 EP (power)

## SN65MLVD2DRBR
designator U?
250 Mbps Single Channel M-LVDS Type-1 Receiver with LVTTL Output, 1 Rx, -40 to +85 degC, 8-pin SON (DRB), Green (RoHS & no Sb/Br); Part-to-Part Skew(Max)(ps): 100; Manufacturer: Texas Instruments; PartNumber: SN65MLVD2DRBR; ESD HBM(kV): 8; ICC(Max)(mA): 25; No. of Rx: 1; Peak-to-Peak Jitter(Max)(ps): 10; Signaling Rate(Mbps): 250; SubFamily: M-LVDS PHY (<500Mbps); DatasheetVersion: SLLS767; PackageVersion: revI, Sep-2010; PackageReference: DRB8-1750X1500TP; PackageDescription: 8-Pin Plastic Small Outline No-Lead, 3 x 3 x 1 mm Body, 0.65 mm Pitch, Exposed Pad; Supplier 1: Digi-Key; Supplier Part Number 1: SN65MLVD2DRBR-ND; Supplier 2: Newark; Supplier Part Number 2: 22M1793; Supplier 3: Mouser; Supplier Part Number 3: 595-SN65MLVD2DRBR; Eco-Plan: Green (RoHS & no Sb/Br); Function: Receiver; Input Signal: M-LVDS; Output Signal: LVTTL; Mounting Technology: Surface Mount; ComponentLink1Description: Datasheet; ComponentLink1URL: http://www.ti.com/general/docs/lit/getliterature.tsp?genericPartNumber=SN65MLVD2&fileType=pdf; ComponentLink2Description: URL Link1; ComponentLink2URL: SamplesURL:http://www.ti.com/product/sn65mlvd2#samples
footprint DRB8-1750X1500TP (SON, 8-Leads, Body 3x3mm, Pitch 0.65mm, Thermal Pad 1.75x1.5mm, TI Recommended)
pins: 1 VCC (power) "Supply voltage", 2 ~{RE} (in) "Receiver enable, active low, enables all receivers", 3 R (hiz) "Data output from receivers", 4 GND (power) "Circuit ground", 5 GND (power) "Circuit ground", 6 A (in) "M-LVDS Non-inverting input", 7 B (in) "M-LVDS Inverting input", 8 VCC (power) "Supply voltage", 9 EP "exposed thermal pad"

## SN65MLVD2DRBRG4
designator U?
250 Mbps Single Channel M-LVDS Type-1 Receiver with LVTTL Output, 1 Rx, -40 to +85 degC, 8-pin SON (DRB), Green (RoHS & no Sb/Br); Part-to-Part Skew(Max)(ps): 100; Manufacturer: Texas Instruments; PartNumber: SN65MLVD2DRBRG4; ESD HBM(kV): 8; ICC(Max)(mA): 25; No. of Rx: 1; Peak-to-Peak Jitter(Max)(ps): 10; Signaling Rate(Mbps): 250; SubFamily: M-LVDS PHY (<500Mbps); DatasheetVersion: SLLS767; PackageVersion: revI, Sep-2010; PackageReference: DRB8-1750X1500TP; PackageDescription: 8-Pin Plastic Small Outline No-Lead, 3 x 3 x 1 mm Body, 0.65 mm Pitch, Exposed Pad; Supplier 1: Digi-Key; Supplier Part Number 1: SN65MLVD2DRBRG4-ND; Supplier 2: Newark; Supplier Part Number 2: 27M0832; Supplier 3: Mouser; Supplier Part Number 3: 595-SN65MLVD2DRBRG4; Eco-Plan: Green (RoHS & no Sb/Br); Function: Receiver; Input Signal: M-LVDS; Output Signal: LVTTL; Mounting Technology: Surface Mount; ComponentLink1Description: Datasheet; ComponentLink1URL: http://www.ti.com/general/docs/lit/getliterature.tsp?genericPartNumber=SN65MLVD2&fileType=pdf; ComponentLink2Description: URL Link1; ComponentLink2URL: SamplesURL:http://www.ti.com/product/sn65mlvd2#samples
footprint DRB8-1750X1500TP (SON, 8-Leads, Body 3x3mm, Pitch 0.65mm, Thermal Pad 1.75x1.5mm, TI Recommended)
pins: 1 VCC (power) "Supply voltage", 2 ~{RE} (in) "Receiver enable, active low, enables all receivers", 3 R (hiz) "Data output from receivers", 4 GND (power) "Circuit ground", 5 GND (power) "Circuit ground", 6 A (in) "M-LVDS Non-inverting input", 7 B (in) "M-LVDS Inverting input", 8 VCC (power) "Supply voltage", 9 EP "exposed thermal pad"

## SN65MLVD2DRBT
designator U?
250 Mbps Single Channel M-LVDS Type-1 Receiver with LVTTL Output, 1 Rx, -40 to +85 degC, 8-pin SON (DRB), Green (RoHS & no Sb/Br); Part-to-Part Skew(Max)(ps): 100; Manufacturer: Texas Instruments; PartNumber: SN65MLVD2DRBT; ESD HBM(kV): 8; ICC(Max)(mA): 25; No. of Rx: 1; Peak-to-Peak Jitter(Max)(ps): 10; Signaling Rate(Mbps): 250; SubFamily: M-LVDS PHY (<500Mbps); DatasheetVersion: SLLS767; PackageVersion: revI, Sep-2010; PackageReference: DRB8-1750X1500TP; PackageDescription: 8-Pin Plastic Small Outline No-Lead, 3 x 3 x 1 mm Body, 0.65 mm Pitch, Exposed Pad; Supplier 1: Digi-Key; Supplier Part Number 1: 296-21313-2-ND; Supplier 2: Digi-Key; Supplier Part Number 2: 296-21313-1-ND; Supplier 3: Digi-Key; Supplier Part Number 3: 296-21313-6-ND; Supplier 4: Newark; Supplier Part Number 4: 22M1794; Supplier 5: Mouser; Supplier Part Number 5: 595-SN65MLVD2DRBT; Eco-Plan: Green (RoHS & no Sb/Br); Function: Receiver; Input Signal: M-LVDS; Output Signal: LVTTL; Mounting Technology: Surface Mount; ComponentLink1Description: Datasheet; ComponentLink1URL: http://www.ti.com/general/docs/lit/getliterature.tsp?genericPartNumber=SN65MLVD2&fileType=pdf; ComponentLink2Description: URL Link1; ComponentLink2URL: SamplesURL:http://www.ti.com/product/sn65mlvd2#samples
footprint DRB8-1750X1500TP (SON, 8-Leads, Body 3x3mm, Pitch 0.65mm, Thermal Pad 1.75x1.5mm, TI Recommended)
pins: 1 VCC (power) "Supply voltage", 2 ~{RE} (in) "Receiver enable, active low, enables all receivers", 3 R (hiz) "Data output from receivers", 4 GND (power) "Circuit ground", 5 GND (power) "Circuit ground", 6 A (in) "M-LVDS Non-inverting input", 7 B (in) "M-LVDS Inverting input", 8 VCC (power) "Supply voltage", 9 EP "exposed thermal pad"

## SN65MLVD2DRBTG4
designator U?
250 Mbps Single Channel M-LVDS Type-1 Receiver with LVTTL Output, 1 Rx, -40 to +85 degC, 8-pin SON (DRB), Green (RoHS & no Sb/Br); Part-to-Part Skew(Max)(ps): 100; Manufacturer: Texas Instruments; PartNumber: SN65MLVD2DRBTG4; ESD HBM(kV): 8; ICC(Max)(mA): 25; No. of Rx: 1; Peak-to-Peak Jitter(Max)(ps): 10; Signaling Rate(Mbps): 250; SubFamily: M-LVDS PHY (<500Mbps); DatasheetVersion: SLLS767; PackageVersion: revI, Sep-2010; PackageReference: DRB8-1750X1500TP; PackageDescription: 8-Pin Plastic Small Outline No-Lead, 3 x 3 x 1 mm Body, 0.65 mm Pitch, Exposed Pad; Supplier 1: Digi-Key; Supplier Part Number 1: SN65MLVD2DRBTG4-ND; Supplier 2: Newark; Supplier Part Number 2: 27M0833; Supplier 3: Mouser; Supplier Part Number 3: 595-SN65MLVD2DRBTG4; Eco-Plan: Green (RoHS & no Sb/Br); Function: Receiver; Input Signal: M-LVDS; Output Signal: LVTTL; Mounting Technology: Surface Mount; ComponentLink1Description: Datasheet; ComponentLink1URL: http://www.ti.com/general/docs/lit/getliterature.tsp?genericPartNumber=SN65MLVD2&fileType=pdf; ComponentLink2Description: URL Link1; ComponentLink2URL: SamplesURL:http://www.ti.com/product/sn65mlvd2#samples
footprint DRB8-1750X1500TP (SON, 8-Leads, Body 3x3mm, Pitch 0.65mm, Thermal Pad 1.75x1.5mm, TI Recommended)
pins: 1 VCC (power) "Supply voltage", 2 ~{RE} (in) "Receiver enable, active low, enables all receivers", 3 R (hiz) "Data output from receivers", 4 GND (power) "Circuit ground", 5 GND (power) "Circuit ground", 6 A (in) "M-LVDS Non-inverting input", 7 B (in) "M-LVDS Inverting input", 8 VCC (power) "Supply voltage", 9 EP "exposed thermal pad"

## SN65MLVD3DRBR
designator U?
250 Mbps 1-Channel M-LVDS Type-2 Receiver with LVTTL Output, 1 Rx, -40 to +85 degC, 8-pin SON (DRB), Green (RoHS & no Sb/Br); Part-to-Part Skew(Max)(ps): 100; Manufacturer: Texas Instruments; PartNumber: SN65MLVD3DRBR; ESD HBM(kV): 8; ICC(Max)(mA): 25; No. of Rx: 1; Signaling Rate(Mbps): 250; SubFamily: M-LVDS PHY (<500Mbps); DatasheetVersion: SLLS767; PackageVersion: revI, Sep-2010; PackageReference: DRB8-1750X1500TP; PackageDescription: 8-Pin Plastic Small Outline No-Lead, 3 x 3 x 1 mm Body, 0.65 mm Pitch, Exposed Pad; Supplier 1: Digi-Key; Supplier Part Number 1: SN65MLVD3DRBR-ND; Supplier 2: Newark; Supplier Part Number 2: 22M1795; Supplier 3: Mouser; Supplier Part Number 3: 595-SN65MLVD3DRBR; Eco-Plan: Green (RoHS & no Sb/Br); Function: Receiver; Input Signal: M-LVDS; Output Signal: LVTTL; Peak-to-Peak Jitter(Max)(ps): 8; Mounting Technology: Surface Mount; ComponentLink1Description: Datasheet; ComponentLink1URL: http://www.ti.com/general/docs/lit/getliterature.tsp?genericPartNumber=SN65MLVD3&fileType=pdf; ComponentLink2Description: URL Link1; ComponentLink2URL: SamplesURL:http://www.ti.com/product/sn65mlvd3#samples
footprint DRB8-1750X1500TP (SON, 8-Leads, Body 3x3mm, Pitch 0.65mm, Thermal Pad 1.75x1.5mm, TI Recommended)
pins: 1 VCC (power) "Supply voltage", 2 ~{RE} (in) "Receiver enable, active low, enables all receivers", 3 R (hiz) "Data output from receivers", 4 GND (power) "Circuit ground", 5 GND (power) "Circuit ground", 6 A (in) "M-LVDS Non-inverting input", 7 B (in) "M-LVDS Inverting input", 8 VCC (power) "Supply voltage", 9 EP "exposed thermal pad"

## SN65MLVD3DRBRG4
designator U?
250 Mbps 1-Channel M-LVDS Type-2 Receiver with LVTTL Output, 1 Rx, -40 to +85 degC, 8-pin SON (DRB), Green (RoHS & no Sb/Br); Part-to-Part Skew(Max)(ps): 100; Manufacturer: Texas Instruments; PartNumber: SN65MLVD3DRBRG4; ESD HBM(kV): 8; ICC(Max)(mA): 25; No. of Rx: 1; Signaling Rate(Mbps): 250; SubFamily: M-LVDS PHY (<500Mbps); DatasheetVersion: SLLS767; PackageVersion: revI, Sep-2010; PackageReference: DRB8-1750X1500TP; PackageDescription: 8-Pin Plastic Small Outline No-Lead, 3 x 3 x 1 mm Body, 0.65 mm Pitch, Exposed Pad; Supplier 1: Digi-Key; Supplier Part Number 1: SN65MLVD3DRBRG4-ND; Supplier 2: Newark; Supplier Part Number 2: 27M0834; Supplier 3: Mouser; Supplier Part Number 3: 595-SN65MLVD3DRBRG4; Eco-Plan: Green (RoHS & no Sb/Br); Function: Receiver; Input Signal: M-LVDS; Output Signal: LVTTL; Peak-to-Peak Jitter(Max)(ps): 8; Mounting Technology: Surface Mount; ComponentLink1Description: Datasheet; ComponentLink1URL: http://www.ti.com/general/docs/lit/getliterature.tsp?genericPartNumber=SN65MLVD3&fileType=pdf; ComponentLink2Description: URL Link1; ComponentLink2URL: SamplesURL:http://www.ti.com/product/sn65mlvd3#samples
footprint DRB8-1750X1500TP (SON, 8-Leads, Body 3x3mm, Pitch 0.65mm, Thermal Pad 1.75x1.5mm, TI Recommended)
pins: 1 VCC (power) "Supply voltage", 2 ~{RE} (in) "Receiver enable, active low, enables all receivers", 3 R (hiz) "Data output from receivers", 4 GND (power) "Circuit ground", 5 GND (power) "Circuit ground", 6 A (in) "M-LVDS Non-inverting input", 7 B (in) "M-LVDS Inverting input", 8 VCC (power) "Supply voltage", 9 EP "exposed thermal pad"

## SN65MLVD3DRBT
designator U?
250 Mbps 1-Channel M-LVDS Type-2 Receiver with LVTTL Output, 1 Rx, -40 to +85 degC, 8-pin SON (DRB), Green (RoHS & no Sb/Br); Part-to-Part Skew(Max)(ps): 100; Manufacturer: Texas Instruments; PartNumber: SN65MLVD3DRBT; ESD HBM(kV): 8; ICC(Max)(mA): 25; No. of Rx: 1; Signaling Rate(Mbps): 250; SubFamily: M-LVDS PHY (<500Mbps); DatasheetVersion: SLLS767; PackageVersion: revI, Sep-2010; PackageReference: DRB8-1750X1500TP; PackageDescription: 8-Pin Plastic Small Outline No-Lead, 3 x 3 x 1 mm Body, 0.65 mm Pitch, Exposed Pad; Supplier 1: Digi-Key; Supplier Part Number 1: 296-21314-2-ND; Supplier 2: Digi-Key; Supplier Part Number 2: 296-21314-1-ND; Supplier 3: Digi-Key; Supplier Part Number 3: 296-21314-6-ND; Supplier 4: Newark; Supplier Part Number 4: 22M1796; Supplier 5: Mouser; Supplier Part Number 5: 595-SN65MLVD3DRBT; Eco-Plan: Green (RoHS & no Sb/Br); Function: Receiver; Input Signal: M-LVDS; Output Signal: LVTTL; Peak-to-Peak Jitter(Max)(ps): 8; Mounting Technology: Surface Mount; ComponentLink1Description: Datasheet; ComponentLink1URL: http://www.ti.com/general/docs/lit/getliterature.tsp?genericPartNumber=SN65MLVD3&fileType=pdf; ComponentLink2Description: URL Link1; ComponentLink2URL: SamplesURL:http://www.ti.com/product/sn65mlvd3#samples
footprint DRB8-1750X1500TP (SON, 8-Leads, Body 3x3mm, Pitch 0.65mm, Thermal Pad 1.75x1.5mm, TI Recommended)
pins: 1 VCC (power) "Supply voltage", 2 ~{RE} (in) "Receiver enable, active low, enables all receivers", 3 R (hiz) "Data output from receivers", 4 GND (power) "Circuit ground", 5 GND (power) "Circuit ground", 6 A (in) "M-LVDS Non-inverting input", 7 B (in) "M-LVDS Inverting input", 8 VCC (power) "Supply voltage", 9 EP "exposed thermal pad"

## SN65MLVD3DRBTG4
designator U?
250 Mbps 1-Channel M-LVDS Type-2 Receiver with LVTTL Output, 1 Rx, -40 to +85 degC, 8-pin SON (DRB), Green (RoHS & no Sb/Br); Part-to-Part Skew(Max)(ps): 100; Manufacturer: Texas Instruments; PartNumber: SN65MLVD3DRBTG4; ESD HBM(kV): 8; ICC(Max)(mA): 25; No. of Rx: 1; Signaling Rate(Mbps): 250; SubFamily: M-LVDS PHY (<500Mbps); DatasheetVersion: SLLS767; PackageVersion: revI, Sep-2010; PackageReference: DRB8-1750X1500TP; PackageDescription: 8-Pin Plastic Small Outline No-Lead, 3 x 3 x 1 mm Body, 0.65 mm Pitch, Exposed Pad; Supplier 1: Digi-Key; Supplier Part Number 1: SN65MLVD3DRBTG4-ND; Supplier 2: Newark; Supplier Part Number 2: 27M0835; Supplier 3: Mouser; Supplier Part Number 3: 595-SN65MLVD3DRBTG4; Eco-Plan: Green (RoHS & no Sb/Br); Function: Receiver; Input Signal: M-LVDS; Output Signal: LVTTL; Peak-to-Peak Jitter(Max)(ps): 8; Mounting Technology: Surface Mount; ComponentLink1Description: Datasheet; ComponentLink1URL: http://www.ti.com/general/docs/lit/getliterature.tsp?genericPartNumber=SN65MLVD3&fileType=pdf; ComponentLink2Description: URL Link1; ComponentLink2URL: SamplesURL:http://www.ti.com/product/sn65mlvd3#samples
footprint DRB8-1750X1500TP (SON, 8-Leads, Body 3x3mm, Pitch 0.65mm, Thermal Pad 1.75x1.5mm, TI Recommended)
pins: 1 VCC (power) "Supply voltage", 2 ~{RE} (in) "Receiver enable, active low, enables all receivers", 3 R (hiz) "Data output from receivers", 4 GND (power) "Circuit ground", 5 GND (power) "Circuit ground", 6 A (in) "M-LVDS Non-inverting input", 7 B (in) "M-LVDS Inverting input", 8 VCC (power) "Supply voltage", 9 EP "exposed thermal pad"